# Altium integrated library NSC Audio.IntLib: 691 symbols (part 10 of 18)
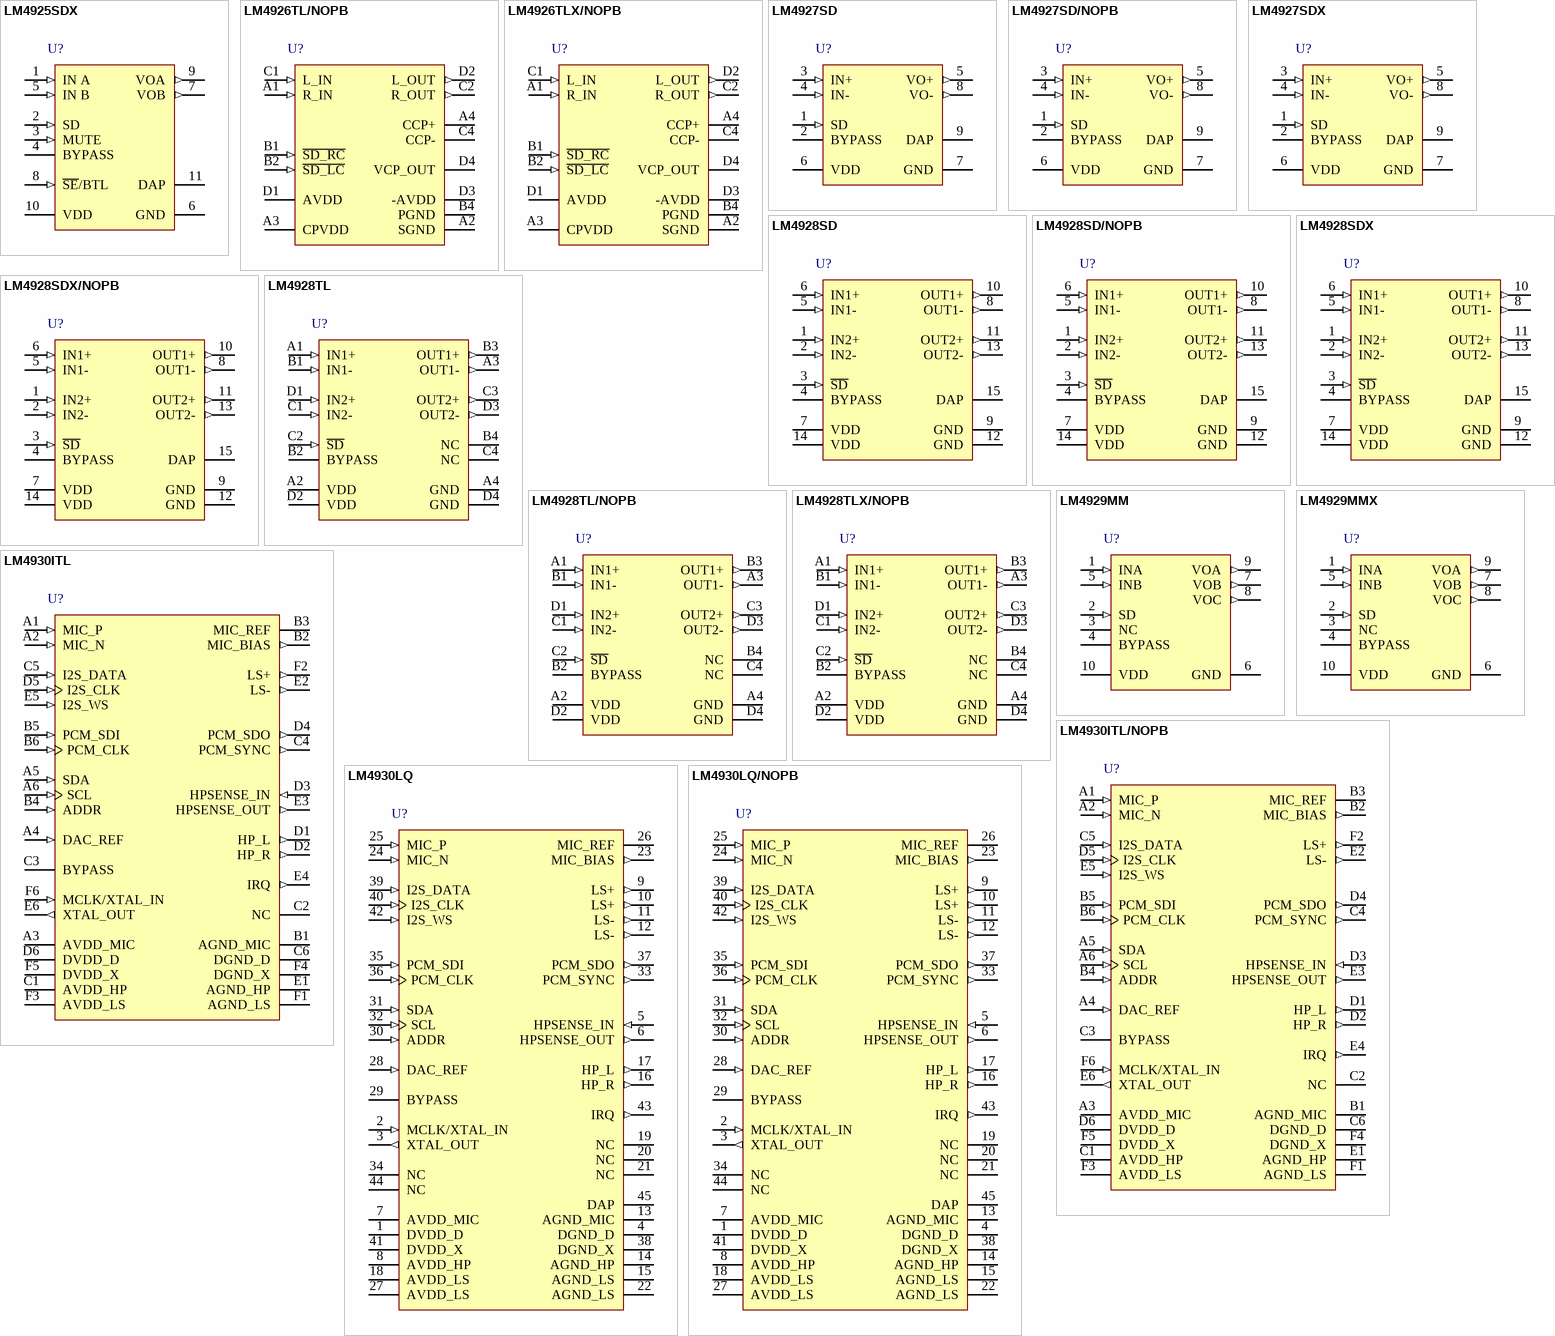
[diagram p36: symbols LM4925SDX to LM4930LQ/NOPB]

## LM4928SD
designator U?
1.2W Stereo Fully Differential Audio Power Amplifier With RF Suppression and Shutdown Low, 15-pin LLP; PartNumber: LM4928SD; Manufacturer: National Semiconductor; PowerWise: N; CompType: Audio IC; Published: 4-Dec-2008; DatasheetVersion: Feb-2006; PackageVersion: revA, Jun-2003; PackageReference: SDA14A; Publisher: Altium Limited; PackageDescription: LLP, Plastic, Dual, 4 x 3 x 0.8mm Body, 14 Lead, 0.5mm Pitch, No Pullback; RoHS: N; PinCount: 14; ComponentLink1Description: LM4928 Datasheet; ComponentLink1URL: http://www.national.com/ds/LM/LM4928.pdf; ComponentLink2Description: LM4928 Web Page; ComponentLink2URL: http://www.national.com/pf/LM/LM4928.html; ComponentLink3Description: SDA14A Package Page; ComponentLink3URL: http://www.national.com/packaging/folders/sda14a.html
footprint SDA14A (SON, 14-Leads, Body 4x3mm, Pitch 0.5mm, NSC Recommended)
pins: 1 IN2+ (in), 2 IN2- (in), 3 ~{SD} (in), 4 BYPASS, 5 IN1- (in), 6 IN1+ (in), 7 VDD (power), 8 OUT1- (out), 9 GND (power), 10 OUT1+ (out), 11 OUT2+ (out), 12 GND (power), 13 OUT2- (out), 14 VDD (power), 15 DAP (power)

## LM4928SD/NOPB
designator U?
1.2W Stereo Fully Differential Audio Power Amplifier With RF Suppression and Shutdown Low, 14-pin LLP, Pb-Free; PartNumber: LM4928SD/NOPB; Manufacturer: National Semiconductor; PowerWise: N; CompType: Audio IC; Published: 1-Mar-2010; DatasheetVersion: Feb-2006; PackageVersion: revA, Jun-2003; PackageReference: SDA14A; Publisher: Altium Limited; PackageDescription: LLP, Plastic, Dual, 4 x 3 x 0.8mm Body, 14 Lead, 0.5mm Pitch, No Pullback; Supplier 1: Digi-Key; Supplier Part Number 1: LM4928SDTR-ND; Supplier 2: Digi-Key; Supplier Part Number 2: LM4928SDCT-ND; Supplier 3: Digi-Key; Supplier Part Number 3: LM4928SDDKR-ND; RoHS: Y; PinCount: 14; ComponentLink1Description: LM4928 Datasheet; ComponentLink1URL: http://www.national.com/ds/LM/LM4928.pdf; ComponentLink2Description: LM4928 Web Page; ComponentLink2URL: http://www.national.com/pf/LM/LM4928.html; ComponentLink3Description: SDA14A Package Page; ComponentLink3URL: http://www.national.com/packaging/folders/sda14a.html
footprint SDA14A (SON, 14-Leads, Body 4x3mm, Pitch 0.5mm, NSC Recommended)
pins: 1 IN2+ (in), 2 IN2- (in), 3 ~{SD} (in), 4 BYPASS, 5 IN1- (in), 6 IN1+ (in), 7 VDD (power), 8 OUT1- (out), 9 GND (power), 10 OUT1+ (out), 11 OUT2+ (out), 12 GND (power), 13 OUT2- (out), 14 VDD (power), 15 DAP (power)

## LM4928SDX
designator U?
1.2W Stereo Fully Differential Audio Power Amplifier With RF Suppression and Shutdown Low, 14-pin LLP; PartNumber: LM4928SDX; Manufacturer: National Semiconductor; PowerWise: N; CompType: Audio IC; Published: 1-Mar-2010; DatasheetVersion: Feb-2006; PackageVersion: revA, Jun-2003; PackageReference: SDA14A; Publisher: Altium Limited; PackageDescription: LLP, Plastic, Dual, 4 x 3 x 0.8mm Body, 14 Lead, 0.5mm Pitch, No Pullback; RoHS: N; PinCount: 14; ComponentLink1Description: LM4928 Datasheet; ComponentLink1URL: http://www.national.com/ds/LM/LM4928.pdf; ComponentLink2Description: LM4928 Web Page; ComponentLink2URL: http://www.national.com/pf/LM/LM4928.html; ComponentLink3Description: SDA14A Package Page; ComponentLink3URL: http://www.national.com/packaging/folders/sda14a.html
footprint SDA14A (SON, 14-Leads, Body 4x3mm, Pitch 0.5mm, NSC Recommended)
pins: 1 IN2+ (in), 2 IN2- (in), 3 ~{SD} (in), 4 BYPASS, 5 IN1- (in), 6 IN1+ (in), 7 VDD (power), 8 OUT1- (out), 9 GND (power), 10 OUT1+ (out), 11 OUT2+ (out), 12 GND (power), 13 OUT2- (out), 14 VDD (power), 15 DAP (power)

## LM4928SDX/NOPB
designator U?
1.2W Stereo Fully Differential Audio Power Amplifier With RF Suppression and Shutdown Low, 14-pin LLP, Pb-Free; PartNumber: LM4928SDX/NOPB; Manufacturer: National Semiconductor; PowerWise: N; CompType: Audio IC; Published: 1-Mar-2010; DatasheetVersion: Feb-2006; PackageVersion: revA, Jun-2003; PackageReference: SDA14A; Publisher: Altium Limited; PackageDescription: LLP, Plastic, Dual, 4 x 3 x 0.8mm Body, 14 Lead, 0.5mm Pitch, No Pullback; Supplier 1: Digi-Key; Supplier Part Number 1: LM4928SDX-ND; RoHS: Y; PinCount: 14; ComponentLink1Description: LM4928 Datasheet; ComponentLink1URL: http://www.national.com/ds/LM/LM4928.pdf; ComponentLink2Description: LM4928 Web Page; ComponentLink2URL: http://www.national.com/pf/LM/LM4928.html; ComponentLink3Description: SDA14A Package Page; ComponentLink3URL: http://www.national.com/packaging/folders/sda14a.html
footprint SDA14A (SON, 14-Leads, Body 4x3mm, Pitch 0.5mm, NSC Recommended)
pins: 1 IN2+ (in), 2 IN2- (in), 3 ~{SD} (in), 4 BYPASS, 5 IN1- (in), 6 IN1+ (in), 7 VDD (power), 8 OUT1- (out), 9 GND (power), 10 OUT1+ (out), 11 OUT2+ (out), 12 GND (power), 13 OUT2- (out), 14 VDD (power), 15 DAP (power)

## LM4928TL
designator U?
1.2W Stereo Fully Differential Audio Power Amplifier With RF Suppression and Shutdown Low, 16-pin Micro SMD; PartNumber: LM4928TL; Manufacturer: National Semiconductor; PackageTopMarking: XYTT*I GF9; PowerWise: N; CompType: Audio IC; Published: 4-Dec-2008; DatasheetVersion: Feb-2006; PackageVersion: revC, Jan-2004; PackageReference: TLA1611A; Publisher: Altium Limited; PackageDescription: Thin Micro SMD, 16 Bump (Large), 0.5mm Pitch; RoHS: Y; PinCount: 16; Code_JEDEC: MO-211-DF; ComponentLink1Description: LM4928 Datasheet; ComponentLink1URL: http://www.national.com/ds/LM/LM4928.pdf; ComponentLink2Description: LM4928 Web Page; ComponentLink2URL: http://www.national.com/pf/LM/LM4928.html; ComponentLink3Description: TLA1611A Package Page; ComponentLink3URL: http://www.national.com/packaging/folders/tla1611a.html
footprint TLA1611A (Micro SMD, 16-Leads, Body 1.97x1.97mm, Pitch 0.5mm, NSC Recommended)
pins: A1 IN1+ (in), A2 VDD (power), A3 OUT1- (out), A4 GND (power), B1 IN1- (in), B2 BYPASS, B3 OUT1+ (out), B4 NC, C1 IN2- (in), C2 ~{SD} (in), C3 OUT2+ (out), C4 NC, D1 IN2+ (in), D2 VDD (power), D3 OUT2- (out), D4 GND (power)

## LM4928TL/NOPB
designator U?
1.2W Stereo Fully Differential Audio Power Amplifier With RF Suppression and Shutdown Low, 16-pin Micro SMD, Pb-Free; PartNumber: LM4928TL/NOPB; Manufacturer: National Semiconductor; PackageTopMarking: XYTT*I GF9; PowerWise: N; CompType: Audio IC; Published: 1-Mar-2010; DatasheetVersion: Feb-2006; PackageVersion: revC, Jan-2004; PackageReference: TLA1611A; Publisher: Altium Limited; PackageDescription: Thin Micro SMD, 16 Bump (Large), 0.5mm Pitch; Supplier 1: Digi-Key; Supplier Part Number 1: LM4928TLTR-ND; Supplier 2: Digi-Key; Supplier Part Number 2: LM4928TLCT-ND; Supplier 3: Digi-Key; Supplier Part Number 3: LM4928TLDKR-ND; RoHS: Y; PinCount: 16; Code_JEDEC: MO-211-DF; ComponentLink1Description: LM4928 Datasheet; ComponentLink1URL: http://www.national.com/ds/LM/LM4928.pdf; ComponentLink2Description: LM4928 Web Page; ComponentLink2URL: http://www.national.com/pf/LM/LM4928.html; ComponentLink3Description: TLA1611A Package Page; ComponentLink3URL: http://www.national.com/packaging/folders/tla1611a.html
footprint TLA1611A (Micro SMD, 16-Leads, Body 1.97x1.97mm, Pitch 0.5mm, NSC Recommended)
pins: A1 IN1+ (in), A2 VDD (power), A3 OUT1- (out), A4 GND (power), B1 IN1- (in), B2 BYPASS, B3 OUT1+ (out), B4 NC, C1 IN2- (in), C2 ~{SD} (in), C3 OUT2+ (out), C4 NC, D1 IN2+ (in), D2 VDD (power), D3 OUT2- (out), D4 GND (power)

## LM4928TLX/NOPB
designator U?
1.2W Stereo Fully Differential Audio Power Amplifier With RF Suppression and Shutdown Low, 16-pin Micro SMD, Pb-Free; PartNumber: LM4928TLX/NOPB; Manufacturer: National Semiconductor; PackageTopMarking: XYTT*I GF9; PowerWise: N; CompType: Audio IC; Published: 1-Mar-2010; DatasheetVersion: Feb-2006; PackageVersion: revC, Jan-2004; PackageReference: TLA1611A; Publisher: Altium Limited; PackageDescription: Thin Micro SMD, 16 Bump (Large), 0.5mm Pitch; Supplier 1: Digi-Key; Supplier Part Number 1: LM4928TLX-ND; RoHS: Y; PinCount: 16; Code_JEDEC: MO-211-DF; ComponentLink1Description: LM4928 Datasheet; ComponentLink1URL: http://www.national.com/ds/LM/LM4928.pdf; ComponentLink2Description: LM4928 Web Page; ComponentLink2URL: http://www.national.com/pf/LM/LM4928.html; ComponentLink3Description: TLA1611A Package Page; ComponentLink3URL: http://www.national.com/packaging/folders/tla1611a.html
footprint TLA1611A (Micro SMD, 16-Leads, Body 1.97x1.97mm, Pitch 0.5mm, NSC Recommended)
pins: A1 IN1+ (in), A2 VDD (power), A3 OUT1- (out), A4 GND (power), B1 IN1- (in), B2 BYPASS, B3 OUT1+ (out), B4 NC, C1 IN2- (in), C2 ~{SD} (in), C3 OUT2+ (out), C4 NC, D1 IN2+ (in), D2 VDD (power), D3 OUT2- (out), D4 GND (power)

## LM4929MM
designator U?
Stereo 40mW Low Noise Headphone Amplifier with OCL Output, 10-pin MSOP; PartNumber: LM4929MM; Manufacturer: National Semiconductor; PackageTopMarking: ZXTT*GB9; PowerWise: N; CompType: Audio IC; Published: 4-Dec-2008; DatasheetVersion: Dec-2004; PackageVersion: revB, Jul-2003; PackageReference: MUB10A; Publisher: Altium Limited; PackageDescription: Mini-SO, Molded, .118 x .118 x .034in Body, 10 Lead, .0197in Pitch; RoHS: N; PinCount: 10; Code_JEDEC: MO-187-BA; ComponentLink1Description: LM4929 Datasheet; ComponentLink1URL: http://www.national.com/ds/LM/LM4929.pdf; ComponentLink2Description: LM4929 Web Page; ComponentLink2URL: http://www.national.com/pf/LM/LM4929.html; ComponentLink3Description: MUB10A Package Page; ComponentLink3URL: http://www.national.com/packaging/folders/mub10a.html
footprint MUB10A_N (TSSOP, 10-Leads, Body 3x3mm, Pitch 0.5mm, IPC Medium Density)
footprint MUB10A_L (TSSOP, 10-Leads, Body 3x3mm, Pitch 0.5mm, IPC High Density)
footprint MUB10A_M (TSSOP, 10-Leads, Body 3x3mm, Pitch 0.5mm, IPC Low Density)
pins: 1 INA (in), 2 SD (in), 3 NC, 4 BYPASS, 5 INB (in), 6 GND (power), 7 VOB (out), 8 VOC (out), 9 VOA (out), 10 VDD (power)

## LM4929MMX
designator U?
Stereo 40mW Low Noise Headphone Amplifier with OCL Output, 10-pin Mini SOIC; PartNumber: LM4929MMX; Manufacturer: National Semiconductor; PackageTopMarking: ZXTT*GB9; PowerWise: N; CompType: Audio IC; Published: 1-Mar-2010; DatasheetVersion: Dec-2004; PackageVersion: revB, Jul-2003; PackageReference: MUB10A; Publisher: Altium Limited; PackageDescription: Mini-SO, Molded, .118 x .118 x .034in Body, 10 Lead, .0197in Pitch; RoHS: N; PinCount: 10; Code_JEDEC: MO-187-BA; ComponentLink1Description: LM4929 Datasheet; ComponentLink1URL: http://www.national.com/ds/LM/LM4929.pdf; ComponentLink2Description: LM4929 Web Page; ComponentLink2URL: http://www.national.com/pf/LM/LM4929.html; ComponentLink3Description: MUB10A Package Page; ComponentLink3URL: http://www.national.com/packaging/folders/mub10a.html
footprint MUB10A_N (TSSOP, 10-Leads, Body 3x3mm, Pitch 0.5mm, IPC Medium Density)
footprint MUB10A_L (TSSOP, 10-Leads, Body 3x3mm, Pitch 0.5mm, IPC High Density)
footprint MUB10A_M (TSSOP, 10-Leads, Body 3x3mm, Pitch 0.5mm, IPC Low Density)
pins: 1 INA (in), 2 SD (in), 3 NC, 4 BYPASS, 5 INB (in), 6 GND (power), 7 VOB (out), 8 VOC (out), 9 VOA (out), 10 VDD (power)

## LM4930ITL
designator U?
Audio Subsystem with Stereo Headphone & Mono Speaker Amplifiers, 36-pin Micro SMD; PartNumber: LM4930ITL; Manufacturer: National Semiconductor; PackageTopMarking: XVG*I B6; PowerWise: N; CompType: Audio IC; Published: 4-Dec-2008; DatasheetVersion: Sep-2004; PackageVersion: revC, Dec-2003; PackageReference: TLA36KRA; Publisher: Altium Limited; PackageDescription: Thin Micro SMD, 36 Bump (Large), 0.5mm Pitch; RoHS: Y; PinCount: 36; Code_JEDEC: MO-211-DK; ComponentLink1Description: LM4930 Datasheet; ComponentLink1URL: http://www.national.com/ds/LM/LM4930.pdf; ComponentLink2Description: LM4930 Web Page; ComponentLink2URL: http://www.national.com/pf/LM/LM4930.html; ComponentLink3Description: TLA36KRA Package Page; ComponentLink3URL: http://www.national.com/packaging/folders/tla36kra.html
footprint TLA36KRA (Micro SMD, 36-Leads, Body 3.41x3.23mm, Pitch 0.5mm, NSC Recommended)
pins: A1 MIC_P (in), A2 MIC_N (in), A3 AVDD_MIC (power), A4 DAC_REF (in), A5 SDA (in), A6 SCL (in), B1 AGND_MIC (power), B2 MIC_BIAS (out), B3 MIC_REF, B4 ADDR (in), B5 PCM_SDI (in), B6 PCM_CLK (in), C1 AVDD_HP (power), C2 NC, C3 BYPASS, C4 PCM_SYNC (out), C5 I2S_DATA (in), C6 DGND_D (power), D1 HP_L (out), D2 HP_R (out), D3 HPSENSE_IN (in), D4 PCM_SDO (out), D5 I2S_CLK (in), D6 DVDD_D (power), E1 AGND_HP (power), E2 LS- (out), E3 HPSENSE_OUT (out), E4 IRQ (out), E5 I2S_WS (in), E6 XTAL_OUT (out), F1 AGND_LS (power), F2 LS+ (out), F3 AVDD_LS (power), F4 DGND_X (power), F5 DVDD_X (power), F6 MCLK/XTAL_IN (in)

## LM4930ITL/NOPB
designator U?
Audio Subsystem with Stereo Headphone & Mono Speaker Amplifiers, 36-pin Micro SMD, Pb-Free; PartNumber: LM4930ITL/NOPB; Manufacturer: National Semiconductor; PackageTopMarking: XVG*I B6; PowerWise: N; CompType: Audio IC; Published: 1-Mar-2010; DatasheetVersion: Sep-2004; PackageVersion: revC, Dec-2003; PackageReference: TLA36KRA; Publisher: Altium Limited; PackageDescription: Thin Micro SMD, 36 Bump (Large), 0.5mm Pitch; Supplier 1: Digi-Key; Supplier Part Number 1: LM4930ITLTR-ND; Supplier 2: Digi-Key; Supplier Part Number 2: LM4930ITLCT-ND; Supplier 3: Digi-Key; Supplier Part Number 3: LM4930ITLDKR-ND; RoHS: Y; PinCount: 36; Code_JEDEC: MO-211-DK; ComponentLink1Description: LM4930 Datasheet; ComponentLink1URL: http://www.national.com/ds/LM/LM4930.pdf; ComponentLink2Description: LM4930 Web Page; ComponentLink2URL: http://www.national.com/pf/LM/LM4930.html; ComponentLink3Description: TLA36KRA Package Page; ComponentLink3URL: http://www.national.com/packaging/folders/tla36kra.html
footprint TLA36KRA (Micro SMD, 36-Leads, Body 3.41x3.23mm, Pitch 0.5mm, NSC Recommended)
pins: A1 MIC_P (in), A2 MIC_N (in), A3 AVDD_MIC (power), A4 DAC_REF (in), A5 SDA (in), A6 SCL (in), B1 AGND_MIC (power), B2 MIC_BIAS (out), B3 MIC_REF, B4 ADDR (in), B5 PCM_SDI (in), B6 PCM_CLK (in), C1 AVDD_HP (power), C2 NC, C3 BYPASS, C4 PCM_SYNC (out), C5 I2S_DATA (in), C6 DGND_D (power), D1 HP_L (out), D2 HP_R (out), D3 HPSENSE_IN (in), D4 PCM_SDO (out), D5 I2S_CLK (in), D6 DVDD_D (power), E1 AGND_HP (power), E2 LS- (out), E3 HPSENSE_OUT (out), E4 IRQ (out), E5 I2S_WS (in), E6 XTAL_OUT (out), F1 AGND_LS (power), F2 LS+ (out), F3 AVDD_LS (power), F4 DGND_X (power), F5 DVDD_X (power), F6 MCLK/XTAL_IN (in)

## LM4930LQ
designator U?
Audio Subsystem with Stereo Headphone & Mono Speaker Amplifiers, 45-pin LLP; PartNumber: LM4930LQ; Manufacturer: National Semiconductor; PackageTopMarking: NS*UZXYTTE#*L4930LQ; PowerWise: N; CompType: Audio IC; Published: 4-Dec-2008; DatasheetVersion: Sep-2004; PackageVersion: revB, Oct-2001; PackageReference: LQA44A; Publisher: Altium Limited; PackageDescription: LLP, Plastic, Quad, 7 x 7 x 0.75mm Body, 44 Lead, 0.5mm Pitch; RoHS: N; PinCount: 44; ComponentLink1Description: LM4930 Datasheet; ComponentLink1URL: http://www.national.com/ds/LM/LM4930.pdf; ComponentLink2Description: LM4930 Web Page; ComponentLink2URL: http://www.national.com/pf/LM/LM4930.html; ComponentLink3Description: LQA44A Package Page; ComponentLink3URL: http://www.national.com/packaging/folders/lqa44a.html
footprint LQA44A (PQFN, 44-Leads, Body 7x7mm, Pitch 0.5mm, NSC Recommended)
pins: 1 DVDD_D (power), 2 MCLK/XTAL_IN (in), 3 XTAL_OUT (out), 4 DGND_D (power), 5 HPSENSE_IN (in), 6 HPSENSE_OUT (out), 7 AVDD_MIC (power), 8 AVDD_HP (power), 9 LS+ (out), 10 LS+ (out), 11 LS- (out), 12 LS- (out), 13 AGND_MIC (power), 14 AGND_HP (power), 15 AGND_LS (power), 16 HP_R (out), 17 HP_L (out), 18 AVDD_LS (power), 19 NC, 20 NC, 21 NC, 22 AGND_LS (power), 23 MIC_BIAS (out), 24 MIC_N (in), 25 MIC_P (in), 26 MIC_REF, 27 AVDD_LS (power), 28 DAC_REF (in), 29 BYPASS, 30 ADDR (in), 31 SDA (in), 32 SCL (in), 33 PCM_SYNC (out), 34 NC, 35 PCM_SDI (in), 36 PCM_CLK (in), 37 PCM_SDO (out), 38 DGND_X (power), 39 I2S_DATA (in), 40 I2S_CLK (in), 41 DVDD_X (power), 42 I2S_WS (in), 43 IRQ (out), 44 NC, 45 DAP (power)

## LM4930LQ/NOPB
designator U?
Audio Subsystem with Stereo Headphone & Mono Speaker Amplifiers, 44-pin LLP, Pb-Free; PartNumber: LM4930LQ/NOPB; Manufacturer: National Semiconductor; PackageTopMarking: NS*UZXYTTE#*L4930LQ; PowerWise: N; CompType: Audio IC; Published: 1-Mar-2010; DatasheetVersion: Sep-2004; PackageVersion: revB, Oct-2001; PackageReference: LQA44A; Publisher: Altium Limited; PackageDescription: LLP, Plastic, Quad, 7 x 7 x 0.75mm Body, 44 Lead, 0.5mm Pitch; Supplier 1: Digi-Key; Supplier Part Number 1: LM4930LQTR-ND; Supplier 2: Digi-Key; Supplier Part Number 2: LM4930LQCT-ND; Supplier 3: Digi-Key; Supplier Part Number 3: LM4930LQDKR-ND; RoHS: Y; PinCount: 44; ComponentLink1Description: LM4930 Datasheet; ComponentLink1URL: http://www.national.com/ds/LM/LM4930.pdf; ComponentLink2Description: LM4930 Web Page; ComponentLink2URL: http://www.national.com/pf/LM/LM4930.html; ComponentLink3Description: LQA44A Package Page; ComponentLink3URL: http://www.national.com/packaging/folders/lqa44a.html
footprint LQA44A (PQFN, 44-Leads, Body 7x7mm, Pitch 0.5mm, NSC Recommended)
pins: 1 DVDD_D (power), 2 MCLK/XTAL_IN (in), 3 XTAL_OUT (out), 4 DGND_D (power), 5 HPSENSE_IN (in), 6 HPSENSE_OUT (out), 7 AVDD_MIC (power), 8 AVDD_HP (power), 9 LS+ (out), 10 LS+ (out), 11 LS- (out), 12 LS- (out), 13 AGND_MIC (power), 14 AGND_HP (power), 15 AGND_LS (power), 16 HP_R (out), 17 HP_L (out), 18 AVDD_LS (power), 19 NC, 20 NC, 21 NC, 22 AGND_LS (power), 23 MIC_BIAS (out), 24 MIC_N (in), 25 MIC_P (in), 26 MIC_REF, 27 AVDD_LS (power), 28 DAC_REF (in), 29 BYPASS, 30 ADDR (in), 31 SDA (in), 32 SCL (in), 33 PCM_SYNC (out), 34 NC, 35 PCM_SDI (in), 36 PCM_CLK (in), 37 PCM_SDO (out), 38 DGND_X (power), 39 I2S_DATA (in), 40 I2S_CLK (in), 41 DVDD_X (power), 42 I2S_WS (in), 43 IRQ (out), 44 NC, 45 DAP (power)

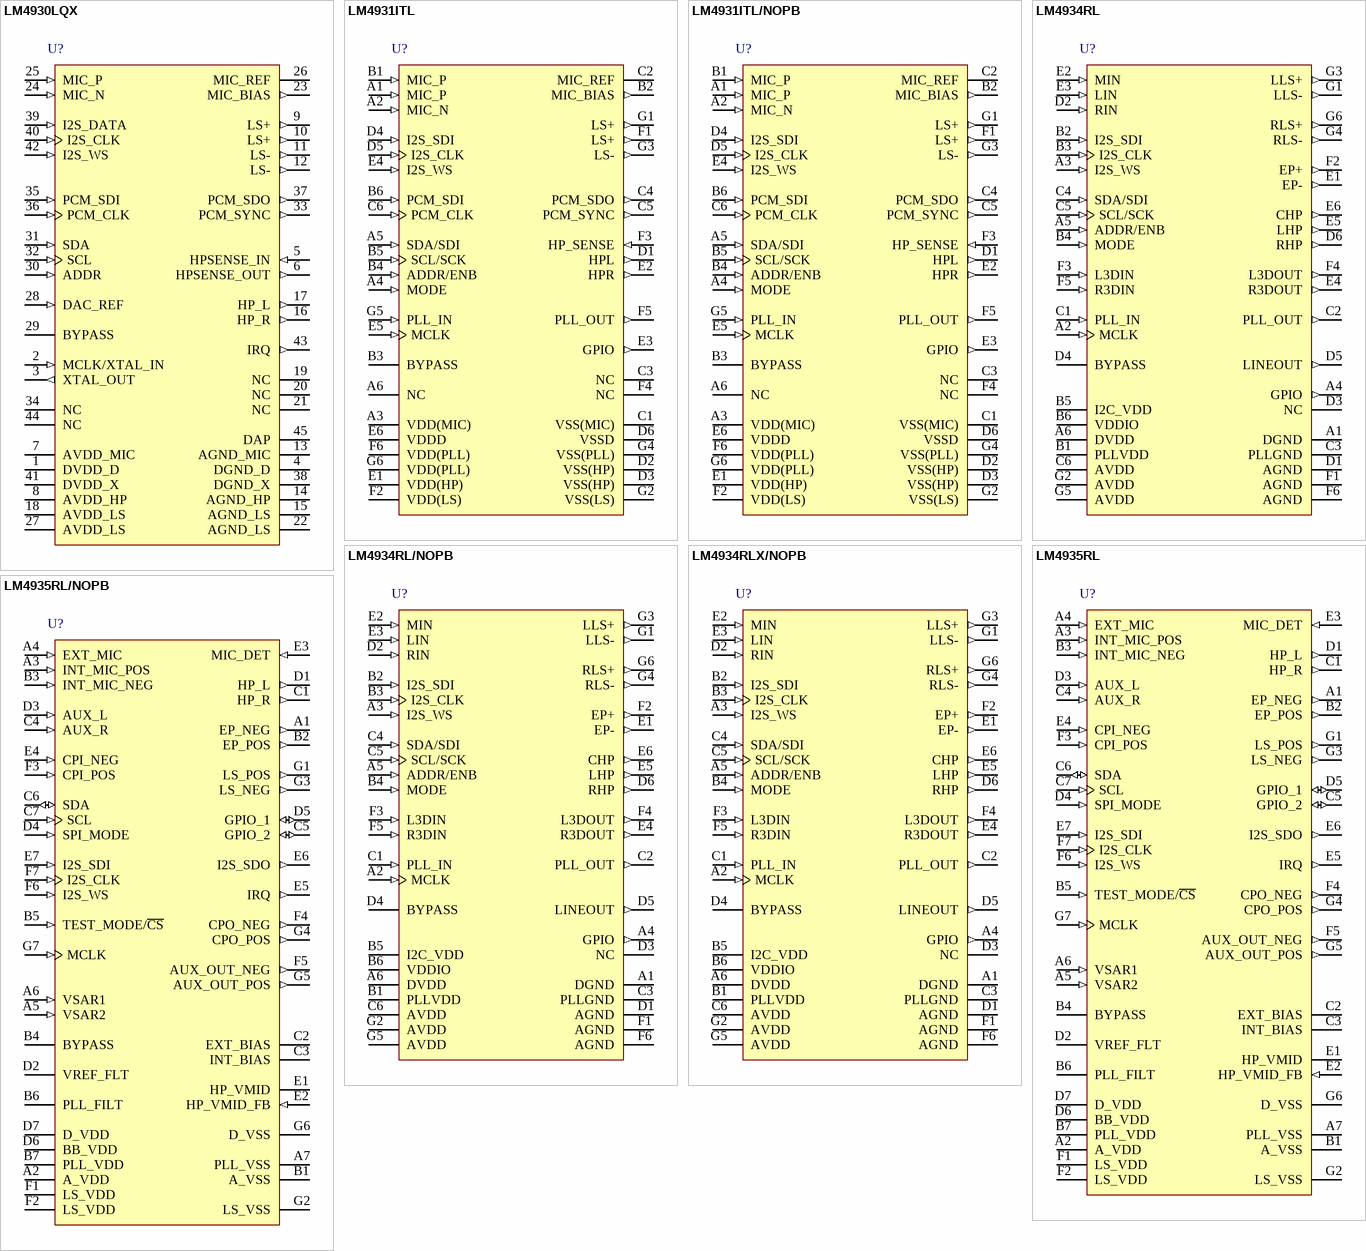
[diagram p13: symbols LM4930LQX to LM4935RL/NOPB]

## LM4930LQX
designator U?
Audio Subsystem with Stereo Headphone & Mono Speaker Amplifiers, 44-pin LLP; PartNumber: LM4930LQX; Manufacturer: National Semiconductor; PackageTopMarking: NS*UZXYTTE#*L4930LQ; PowerWise: N; CompType: Audio IC; Published: 1-Mar-2010; DatasheetVersion: Sep-2004; PackageVersion: revB, Oct-2001; PackageReference: LQA44A; Publisher: Altium Limited; PackageDescription: LLP, Plastic, Quad, 7 x 7 x 0.75mm Body, 44 Lead, 0.5mm Pitch; RoHS: N; PinCount: 44; ComponentLink1Description: LM4930 Datasheet; ComponentLink1URL: http://www.national.com/ds/LM/LM4930.pdf; ComponentLink2Description: LM4930 Web Page; ComponentLink2URL: http://www.national.com/pf/LM/LM4930.html; ComponentLink3Description: LQA44A Package Page; ComponentLink3URL: http://www.national.com/packaging/folders/lqa44a.html
footprint LQA44A (PQFN, 44-Leads, Body 7x7mm, Pitch 0.5mm, NSC Recommended)
pins: 1 DVDD_D (power), 2 MCLK/XTAL_IN (in), 3 XTAL_OUT (out), 4 DGND_D (power), 5 HPSENSE_IN (in), 6 HPSENSE_OUT (out), 7 AVDD_MIC (power), 8 AVDD_HP (power), 9 LS+ (out), 10 LS+ (out), 11 LS- (out), 12 LS- (out), 13 AGND_MIC (power), 14 AGND_HP (power), 15 AGND_LS (power), 16 HP_R (out), 17 HP_L (out), 18 AVDD_LS (power), 19 NC, 20 NC, 21 NC, 22 AGND_LS (power), 23 MIC_BIAS (out), 24 MIC_N (in), 25 MIC_P (in), 26 MIC_REF, 27 AVDD_LS (power), 28 DAC_REF (in), 29 BYPASS, 30 ADDR (in), 31 SDA (in), 32 SCL (in), 33 PCM_SYNC (out), 34 NC, 35 PCM_SDI (in), 36 PCM_CLK (in), 37 PCM_SDO (out), 38 DGND_X (power), 39 I2S_DATA (in), 40 I2S_CLK (in), 41 DVDD_X (power), 42 I2S_WS (in), 43 IRQ (out), 44 NC, 45 DAP (power)

## LM4931ITL
designator U?
Audio Subsystem with Mono High Efficiency Loudspeaker and Stereo Headphone Amplifiers, 42-pin Micro SMD; PartNumber: LM4931ITL; Manufacturer: National Semiconductor; PackageTopMarking: XYTT*I GC9; PowerWise: N; CompType: Audio IC; Published: 4-Dec-2008; DatasheetVersion: Jul-2006; PackageVersion: revC, Feb-2005; PackageReference: TLA42YVA; Publisher: Altium Limited; PackageDescription: Thin Micro SMD, 42 Bump (Large), 0.5mm Pitch; RoHS: Y; PinCount: 42; ComponentLink1Description: LM4931 Datasheet; ComponentLink1URL: http://www.national.com/ds/LM/LM4931.pdf; ComponentLink2Description: LM4931 Web Page; ComponentLink2URL: http://www.national.com/pf/LM/LM4931.html; ComponentLink3Description: TLA42YVA Package Page; ComponentLink3URL: http://www.national.com/packaging/folders/tla42yva.html
footprint TLA42YVA (Micro SMD, 42-Leads, Body 3.93x3.51mm, Pitch 0.5mm, NSC Recommended)
pins: A1 MIC_P (in), A2 MIC_N (in), A3 VDD(MIC) (power), A4 MODE (in), A5 SDA/SDI (in), A6 NC, B1 MIC_P (in), B2 MIC_BIAS (out), B3 BYPASS, B4 ADDR/ENB (in), B5 SCL/SCK (in), B6 PCM_SDI (in), C1 VSS(MIC) (power), C2 MIC_REF, C3 NC, C4 PCM_SDO (out), C5 PCM_SYNC (out), C6 PCM_CLK (in), D1 HPL (out), D2 VSS(HP) (power), D3 VSS(HP) (power), D4 I2S_SDI (in), D5 I2S_CLK (in), D6 VSSD (power), E1 VDD(HP) (power), E2 HPR (out), E3 GPIO (out), E4 I2S_WS (in), E5 MCLK (in), E6 VDDD (power), F1 LS+ (out), F2 VDD(LS) (power), F3 HP_SENSE (in), F4 NC, F5 PLL_OUT (out), F6 VDD(PLL) (power), G1 LS+ (out), G2 VSS(LS) (power), G3 LS- (out), G4 VSS(PLL) (power), G5 PLL_IN (in), G6 VDD(PLL) (power)

## LM4931ITL/NOPB
designator U?
Audio Subsystem with Mono High Efficiency Loudspeaker and Stereo Headphone Amplifiers, 42-pin Micro SMD, Pb-Free; PartNumber: LM4931ITL/NOPB; Manufacturer: National Semiconductor; PackageTopMarking: XYTT*I GC9; PowerWise: N; CompType: Audio IC; Published: 1-Mar-2010; DatasheetVersion: Jul-2006; PackageVersion: revC, Feb-2005; PackageReference: TLA42YVA; Publisher: Altium Limited; PackageDescription: Thin Micro SMD, 42 Bump (Large), 0.5mm Pitch; Supplier 1: Digi-Key; Supplier Part Number 1: LM4931ITLTR-ND; Supplier 2: Digi-Key; Supplier Part Number 2: LM4931ITLCT-ND; Supplier 3: Digi-Key; Supplier Part Number 3: LM4931ITLDKR-ND; RoHS: Y; PinCount: 42; ComponentLink1Description: LM4931 Datasheet; ComponentLink1URL: http://www.national.com/ds/LM/LM4931.pdf; ComponentLink2Description: LM4931 Web Page; ComponentLink2URL: http://www.national.com/pf/LM/LM4931.html; ComponentLink3Description: TLA42YVA Package Page; ComponentLink3URL: http://www.national.com/packaging/folders/tla42yva.html
footprint TLA42YVA (Micro SMD, 42-Leads, Body 3.93x3.51mm, Pitch 0.5mm, NSC Recommended)
pins: A1 MIC_P (in), A2 MIC_N (in), A3 VDD(MIC) (power), A4 MODE (in), A5 SDA/SDI (in), A6 NC, B1 MIC_P (in), B2 MIC_BIAS (out), B3 BYPASS, B4 ADDR/ENB (in), B5 SCL/SCK (in), B6 PCM_SDI (in), C1 VSS(MIC) (power), C2 MIC_REF, C3 NC, C4 PCM_SDO (out), C5 PCM_SYNC (out), C6 PCM_CLK (in), D1 HPL (out), D2 VSS(HP) (power), D3 VSS(HP) (power), D4 I2S_SDI (in), D5 I2S_CLK (in), D6 VSSD (power), E1 VDD(HP) (power), E2 HPR (out), E3 GPIO (out), E4 I2S_WS (in), E5 MCLK (in), E6 VDDD (power), F1 LS+ (out), F2 VDD(LS) (power), F3 HP_SENSE (in), F4 NC, F5 PLL_OUT (out), F6 VDD(PLL) (power), G1 LS+ (out), G2 VSS(LS) (power), G3 LS- (out), G4 VSS(PLL) (power), G5 PLL_IN (in), G6 VDD(PLL) (power)

## LM4934RL
designator U?
3D Audio Sub-System with Stereo Speaker, OCL/SE Stereo Headphone, Earpiece and Mono Line Level Outputs, 42-pin Micro SMDXT; PartNumber: LM4934RL; Manufacturer: National Semiconductor; PackageTopMarking: XYTT*I GG9; PowerWise: N; CompType: Audio IC; Published: 4-Dec-2008; DatasheetVersion: Feb-2006; PackageVersion: revB, Dec-2005; PackageReference: RLA42MPA; Publisher: Altium Limited; PackageDescription: Micro SMDxt, 42 Bump (Large), 0.5mm Pitch; RoHS: Y; PinCount: 42; ComponentLink1Description: LM4934 Datasheet; ComponentLink1URL: http://www.national.com/ds/LM/LM4934.pdf; ComponentLink2Description: LM4934 Web Page; ComponentLink2URL: http://www.national.com/pf/LM/LM4934.html; ComponentLink3Description: RLA42MPA Package Page; ComponentLink3URL: http://www.national.com/packaging/folders/rla42mpa.html
footprint RLA42MPA (Micro SMD, 42-Leads, Body 3.8x3.25mm, Pitch 0.5mm, NSC Recommended)
pins: A1 DGND (power), A2 MCLK (in), A3 I2S_WS (in), A4 GPIO (out), A5 ADDR/ENB (in), A6 DVDD (power), B1 PLLVDD (power), B2 I2S_SDI (in), B3 I2S_CLK (in), B4 MODE (in), B5 I2C_VDD (power), B6 VDDIO (power), C1 PLL_IN (in), C2 PLL_OUT (out), C3 PLLGND (power), C4 SDA/SDI (in), C5 SCL/SCK (in), C6 AVDD (power), D1 AGND (power), D2 RIN (in), D3 NC, D4 BYPASS, D5 LINEOUT (out), D6 RHP (out), E1 EP- (out), E2 MIN (in), E3 LIN (in), E4 R3DOUT (out), E5 LHP (out), E6 CHP (out), F1 AGND (power), F2 EP+ (out), F3 L3DIN (in), F4 L3DOUT (out), F5 R3DIN (in), F6 AGND (power), G1 LLS- (out), G2 AVDD (power), G3 LLS+ (out), G4 RLS- (out), G5 AVDD (power), G6 RLS+ (out)

## LM4934RL/NOPB
designator U?
3D Audio Sub-System with Stereo Speaker, OCL/SE Stereo Headphone, Earpiece and Mono Line Level Outputs, 42-pin Micro SMDXT, Pb-Free; PartNumber: LM4934RL/NOPB; Manufacturer: National Semiconductor; PackageTopMarking: XYTT*I GG9; PowerWise: N; CompType: Audio IC; Published: 1-Mar-2010; DatasheetVersion: Feb-2006; PackageVersion: revB, Dec-2005; PackageReference: RLA42MPA; Publisher: Altium Limited; PackageDescription: Micro SMDxt, 42 Bump (Large), 0.5mm Pitch; Supplier 1: Digi-Key; Supplier Part Number 1: LM4934RLTR-ND; Supplier 2: Digi-Key; Supplier Part Number 2: LM4934RLCT-ND; Supplier 3: Digi-Key; Supplier Part Number 3: LM4934RLDKR-ND; RoHS: Y; PinCount: 42; ComponentLink1Description: LM4934 Datasheet; ComponentLink1URL: http://www.national.com/ds/LM/LM4934.pdf; ComponentLink2Description: LM4934 Web Page; ComponentLink2URL: http://www.national.com/pf/LM/LM4934.html; ComponentLink3Description: RLA42MPA Package Page; ComponentLink3URL: http://www.national.com/packaging/folders/rla42mpa.html
footprint RLA42MPA (Micro SMD, 42-Leads, Body 3.8x3.25mm, Pitch 0.5mm, NSC Recommended)
pins: A1 DGND (power), A2 MCLK (in), A3 I2S_WS (in), A4 GPIO (out), A5 ADDR/ENB (in), A6 DVDD (power), B1 PLLVDD (power), B2 I2S_SDI (in), B3 I2S_CLK (in), B4 MODE (in), B5 I2C_VDD (power), B6 VDDIO (power), C1 PLL_IN (in), C2 PLL_OUT (out), C3 PLLGND (power), C4 SDA/SDI (in), C5 SCL/SCK (in), C6 AVDD (power), D1 AGND (power), D2 RIN (in), D3 NC, D4 BYPASS, D5 LINEOUT (out), D6 RHP (out), E1 EP- (out), E2 MIN (in), E3 LIN (in), E4 R3DOUT (out), E5 LHP (out), E6 CHP (out), F1 AGND (power), F2 EP+ (out), F3 L3DIN (in), F4 L3DOUT (out), F5 R3DIN (in), F6 AGND (power), G1 LLS- (out), G2 AVDD (power), G3 LLS+ (out), G4 RLS- (out), G5 AVDD (power), G6 RLS+ (out)

## LM4934RLX/NOPB
designator U?
3D Audio Sub-System with Stereo Speaker, OCL/SE Stereo Headphone, Earpiece and Mono Line Level Outputs, 42-pin Micro SMDXT, Pb-Free; PartNumber: LM4934RLX/NOPB; Manufacturer: National Semiconductor; PackageTopMarking: XYTT*I GG9; PowerWise: N; CompType: Audio IC; Published: 1-Mar-2010; DatasheetVersion: Feb-2006; PackageVersion: revB, Dec-2005; PackageReference: RLA42MPA; Publisher: Altium Limited; PackageDescription: Micro SMDxt, 42 Bump (Large), 0.5mm Pitch; Supplier 1: Digi-Key; Supplier Part Number 1: LM4934RLX-ND; RoHS: Y; PinCount: 42; ComponentLink1Description: LM4934 Datasheet; ComponentLink1URL: http://www.national.com/ds/LM/LM4934.pdf; ComponentLink2Description: LM4934 Web Page; ComponentLink2URL: http://www.national.com/pf/LM/LM4934.html; ComponentLink3Description: RLA42MPA Package Page; ComponentLink3URL: http://www.national.com/packaging/folders/rla42mpa.html
footprint RLA42MPA (Micro SMD, 42-Leads, Body 3.8x3.25mm, Pitch 0.5mm, NSC Recommended)
pins: A1 DGND (power), A2 MCLK (in), A3 I2S_WS (in), A4 GPIO (out), A5 ADDR/ENB (in), A6 DVDD (power), B1 PLLVDD (power), B2 I2S_SDI (in), B3 I2S_CLK (in), B4 MODE (in), B5 I2C_VDD (power), B6 VDDIO (power), C1 PLL_IN (in), C2 PLL_OUT (out), C3 PLLGND (power), C4 SDA/SDI (in), C5 SCL/SCK (in), C6 AVDD (power), D1 AGND (power), D2 RIN (in), D3 NC, D4 BYPASS, D5 LINEOUT (out), D6 RHP (out), E1 EP- (out), E2 MIN (in), E3 LIN (in), E4 R3DOUT (out), E5 LHP (out), E6 CHP (out), F1 AGND (power), F2 EP+ (out), F3 L3DIN (in), F4 L3DOUT (out), F5 R3DIN (in), F6 AGND (power), G1 LLS- (out), G2 AVDD (power), G3 LLS+ (out), G4 RLS- (out), G5 AVDD (power), G6 RLS+ (out)

## LM4935RL
designator U?
Audio Sub-System with Dual-Mode Stereo Headphone & Mono High Efficiency Loudspeaker Amplifiers and Multi-Purpose ADC, 49-pin Micro SMDXT; PartNumber: LM4935RL; Manufacturer: National Semiconductor; PackageTopMarking: XYTT*I GG7; PowerWise: N; CompType: Audio IC; Published: 4-Dec-2008; DatasheetVersion: Jan-2006; PackageVersion: revB, Dec-2005; PackageReference: RLA49UUA; Publisher: Altium Limited; PackageDescription: Micro SMDxt, 49 Bump (Large), 0.5mm Pitch; RoHS: Y; PinCount: 49; ComponentLink1Description: LM4935 Datasheet; ComponentLink1URL: http://www.national.com/ds/LM/LM4935.pdf; ComponentLink2Description: LM4935 Web Page; ComponentLink2URL: http://www.national.com/pf/LM/LM4935.html; ComponentLink3Description: RLA49UUA Package Page; ComponentLink3URL: http://www.national.com/packaging/folders/rla49uua.html
footprint RLA49UUA (Micro SMD, 49-Leads, Body 3.93x3.93mm, Pitch 0.5mm, NSC Recommended)
pins: A1 EP_NEG (out), A2 A_VDD (power), A3 INT_MIC_POS (in), A4 EXT_MIC (in), A5 VSAR2 (in), A6 VSAR1 (in), A7 PLL_VSS (power), B1 A_VSS (power), B2 EP_POS (out), B3 INT_MIC_NEG (in), B4 BYPASS, B5 TEST_MODE/~{CS} (in), B6 PLL_FILT, B7 PLL_VDD (power), C1 HP_R (out), C2 EXT_BIAS (power), C3 INT_BIAS (power), C4 AUX_R (in), C5 GPIO_2 (io), C6 SDA (io), C7 SCL (in), D1 HP_L (out), D2 VREF_FLT, D3 AUX_L (in), D4 SPI_MODE (in), D5 GPIO_1 (io), D6 BB_VDD (power), D7 D_VDD (power), E1 HP_VMID (power), E2 HP_VMID_FB (in), E3 MIC_DET (in), E4 CPI_NEG (in), E5 IRQ (out), E6 I2S_SDO (out), E7 I2S_SDI (in), F1 LS_VDD (power), F2 LS_VDD (power), F3 CPI_POS (in), F4 CPO_NEG (out), F5 AUX_OUT_NEG (out), F6 I2S_WS (in), F7 I2S_CLK (in), G1 LS_POS (out), G2 LS_VSS (power), G3 LS_NEG (out), G4 CPO_POS (out), G5 AUX_OUT_POS (out), G6 D_VSS (power), G7 MCLK (in)

## LM4935RL/NOPB
designator U?
Audio Sub-System with Dual-Mode Stereo Headphone & Mono High Efficiency Loudspeaker Amplifiers and Multi-Purpose ADC, 49-pin Micro SMDXT, Pb-Free; PartNumber: LM4935RL/NOPB; Manufacturer: National Semiconductor; PackageTopMarking: XYTT*I GG7; PowerWise: N; CompType: Audio IC; Published: 1-Mar-2010; DatasheetVersion: Jan-2006; PackageVersion: revB, Dec-2005; PackageReference: RLA49UUA; Publisher: Altium Limited; PackageDescription: Micro SMDxt, 49 Bump (Large), 0.5mm Pitch; Supplier 1: Digi-Key; Supplier Part Number 1: LM4935RLTR-ND; Supplier 2: Digi-Key; Supplier Part Number 2: LM4935RLCT-ND; Supplier 3: Digi-Key; Supplier Part Number 3: LM4935RLDKR-ND; RoHS: Y; PinCount: 49; ComponentLink1Description: LM4935 Datasheet; ComponentLink1URL: http://www.national.com/ds/LM/LM4935.pdf; ComponentLink2Description: LM4935 Web Page; ComponentLink2URL: http://www.national.com/pf/LM/LM4935.html; ComponentLink3Description: RLA49UUA Package Page; ComponentLink3URL: http://www.national.com/packaging/folders/rla49uua.html
footprint RLA49UUA (Micro SMD, 49-Leads, Body 3.93x3.93mm, Pitch 0.5mm, NSC Recommended)
pins: A1 EP_NEG (out), A2 A_VDD (power), A3 INT_MIC_POS (in), A4 EXT_MIC (in), A5 VSAR2 (in), A6 VSAR1 (in), A7 PLL_VSS (power), B1 A_VSS (power), B2 EP_POS (out), B3 INT_MIC_NEG (in), B4 BYPASS, B5 TEST_MODE/~{CS} (in), B6 PLL_FILT, B7 PLL_VDD (power), C1 HP_R (out), C2 EXT_BIAS (power), C3 INT_BIAS (power), C4 AUX_R (in), C5 GPIO_2 (io), C6 SDA (io), C7 SCL (in), D1 HP_L (out), D2 VREF_FLT, D3 AUX_L (in), D4 SPI_MODE (in), D5 GPIO_1 (io), D6 BB_VDD (power), D7 D_VDD (power), E1 HP_VMID (power), E2 HP_VMID_FB (in), E3 MIC_DET (in), E4 CPI_NEG (in), E5 IRQ (out), E6 I2S_SDO (out), E7 I2S_SDI (in), F1 LS_VDD (power), F2 LS_VDD (power), F3 CPI_POS (in), F4 CPO_NEG (out), F5 AUX_OUT_NEG (out), F6 I2S_WS (in), F7 I2S_CLK (in), G1 LS_POS (out), G2 LS_VSS (power), G3 LS_NEG (out), G4 CPO_POS (out), G5 AUX_OUT_POS (out), G6 D_VSS (power), G7 MCLK (in)

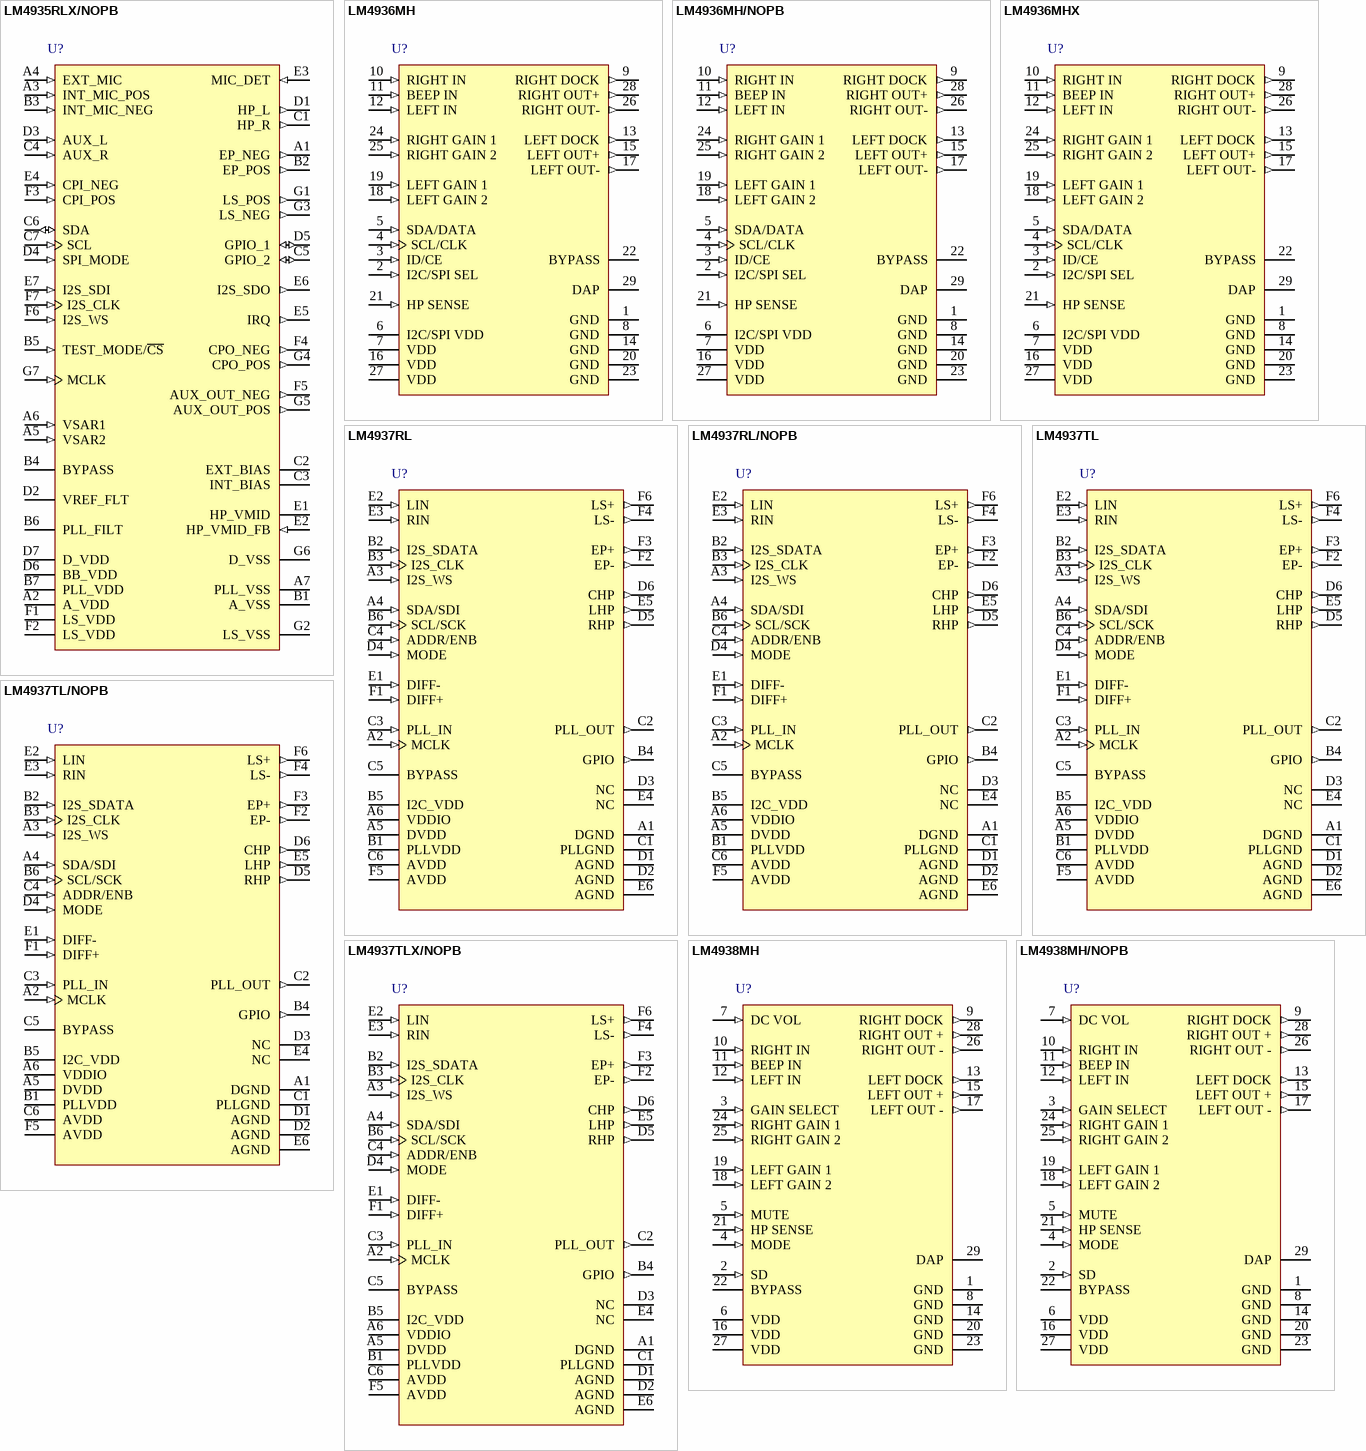
[diagram p14: symbols LM4935RLX/NOPB to LM4938MH/NOPB]

## LM4935RLX/NOPB
designator U?
Audio Sub-System with Dual-Mode Stereo Headphone & Mono High Efficiency Loudspeaker Amplifiers and Multi-Purpose ADC, 49-pin Micro SMDXT, Pb-Free; PartNumber: LM4935RLX/NOPB; Manufacturer: National Semiconductor; PackageTopMarking: XYTT*I GG7; PowerWise: N; CompType: Audio IC; Published: 1-Mar-2010; DatasheetVersion: Jan-2006; PackageVersion: revB, Dec-2005; PackageReference: RLA49UUA; Publisher: Altium Limited; PackageDescription: Micro SMDxt, 49 Bump (Large), 0.5mm Pitch; Supplier 1: Digi-Key; Supplier Part Number 1: LM4935RLX-ND; RoHS: Y; PinCount: 49; ComponentLink1Description: LM4935 Datasheet; ComponentLink1URL: http://www.national.com/ds/LM/LM4935.pdf; ComponentLink2Description: LM4935 Web Page; ComponentLink2URL: http://www.national.com/pf/LM/LM4935.html; ComponentLink3Description: RLA49UUA Package Page; ComponentLink3URL: http://www.national.com/packaging/folders/rla49uua.html
footprint RLA49UUA (Micro SMD, 49-Leads, Body 3.93x3.93mm, Pitch 0.5mm, NSC Recommended)
pins: A1 EP_NEG (out), A2 A_VDD (power), A3 INT_MIC_POS (in), A4 EXT_MIC (in), A5 VSAR2 (in), A6 VSAR1 (in), A7 PLL_VSS (power), B1 A_VSS (power), B2 EP_POS (out), B3 INT_MIC_NEG (in), B4 BYPASS, B5 TEST_MODE/~{CS} (in), B6 PLL_FILT, B7 PLL_VDD (power), C1 HP_R (out), C2 EXT_BIAS (power), C3 INT_BIAS (power), C4 AUX_R (in), C5 GPIO_2 (io), C6 SDA (io), C7 SCL (in), D1 HP_L (out), D2 VREF_FLT, D3 AUX_L (in), D4 SPI_MODE (in), D5 GPIO_1 (io), D6 BB_VDD (power), D7 D_VDD (power), E1 HP_VMID (power), E2 HP_VMID_FB (in), E3 MIC_DET (in), E4 CPI_NEG (in), E5 IRQ (out), E6 I2S_SDO (out), E7 I2S_SDI (in), F1 LS_VDD (power), F2 LS_VDD (power), F3 CPI_POS (in), F4 CPO_NEG (out), F5 AUX_OUT_NEG (out), F6 I2S_WS (in), F7 I2S_CLK (in), G1 LS_POS (out), G2 LS_VSS (power), G3 LS_NEG (out), G4 CPO_POS (out), G5 AUX_OUT_POS (out), G6 D_VSS (power), G7 MCLK (in)

## LM4936MH
designator U?
Stereo 2W Audio Power Amplifiers with Volume Control and Selectable Control Interface (SPI or I2C), 29-pin TSSOP-EP; PartNumber: LM4936MH; Manufacturer: National Semiconductor; PackageTopMarking: NSUZXYTTE#*LM4936MH; PowerWise: N; CompType: Audio IC; Published: 4-Dec-2008; DatasheetVersion: Apr-2005; PackageVersion: revD, Oct-2003; PackageReference: MXA28A; Publisher: Altium Limited; PackageDescription: Molded TSSOP, Jedec, 9.7 x 4.4 x 0.9mm Body, 28 Lead, 0.65mm Pitch, Exposed Pad; RoHS: N; PinCount: 28; Code_JEDEC: MO-153-AET; ComponentLink1Description: LM4936 Datasheet; ComponentLink1URL: http://www.national.com/ds/LM/LM4936.pdf; ComponentLink2Description: LM4936 Web Page; ComponentLink2URL: http://www.national.com/pf/LM/LM4936.html; ComponentLink3Description: MXA28A Package Page; ComponentLink3URL: http://www.national.com/packaging/folders/mxa28a.html
footprint MXA28A_N (TSOP, 28-Leads, Body 9.7x4.4mm, Pitch 0.65mm, Exposed Pad, IPC Medium Density)
footprint MXA28A_L (TSOP, 28-Leads, Body 9.7x4.4mm, Pitch 0.65mm, Exposed Pad, IPC High Density)
footprint MXA28A_M (TSOP, 28-Leads, Body 9.7x4.4mm, Pitch 0.65mm, Exposed Pad, IPC Low Density)
pins: 1 GND (power), 2 I2C/SPI SEL (in), 3 ID/CE (in), 4 SCL/CLK (in), 5 SDA/DATA (in), 6 I2C/SPI VDD (power), 7 VDD (power), 8 GND (power), 9 RIGHT DOCK (out), 10 RIGHT IN (in), 11 BEEP IN (in), 12 LEFT IN (in), 13 LEFT DOCK (out), 14 GND (power), 15 LEFT OUT+ (out), 16 VDD (power), 17 LEFT OUT- (out), 18 LEFT GAIN 2 (in), 19 LEFT GAIN 1 (in), 20 GND (power), 21 HP SENSE (in), 22 BYPASS, 23 GND (power), 24 RIGHT GAIN 1 (in), 25 RIGHT GAIN 2 (in), 26 RIGHT OUT- (out), 27 VDD (power), 28 RIGHT OUT+ (out), 29 DAP (power)

## LM4936MH/NOPB
designator U?
Stereo 2W Audio Power Amplifiers with Volume Control and Selectable Control Interface (SPI or I2C), 28-pin TSSOP-EP, Pb-Free; PartNumber: LM4936MH/NOPB; Manufacturer: National Semiconductor; PackageTopMarking: NSUZXYTTE#*LM4936MH; PowerWise: N; CompType: Audio IC; Published: 1-Mar-2010; DatasheetVersion: Apr-2005; PackageVersion: revD, Oct-2003; PackageReference: MXA28A; Publisher: Altium Limited; PackageDescription: Molded TSSOP, Jedec, 9.7 x 4.4 x 0.9mm Body, 28 Lead, 0.65mm Pitch, Exposed Pad; Supplier 1: Digi-Key; Supplier Part Number 1: LM4936MH-ND; RoHS: Y; PinCount: 28; Code_JEDEC: MO-153-AET; ComponentLink1Description: LM4936 Datasheet; ComponentLink1URL: http://www.national.com/ds/LM/LM4936.pdf; ComponentLink2Description: LM4936 Web Page; ComponentLink2URL: http://www.national.com/pf/LM/LM4936.html; ComponentLink3Description: MXA28A Package Page; ComponentLink3URL: http://www.national.com/packaging/folders/mxa28a.html
footprint MXA28A_N (TSOP, 28-Leads, Body 9.7x4.4mm, Pitch 0.65mm, Exposed Pad, IPC Medium Density)
footprint MXA28A_L (TSOP, 28-Leads, Body 9.7x4.4mm, Pitch 0.65mm, Exposed Pad, IPC High Density)
footprint MXA28A_M (TSOP, 28-Leads, Body 9.7x4.4mm, Pitch 0.65mm, Exposed Pad, IPC Low Density)
pins: 1 GND (power), 2 I2C/SPI SEL (in), 3 ID/CE (in), 4 SCL/CLK (in), 5 SDA/DATA (in), 6 I2C/SPI VDD (power), 7 VDD (power), 8 GND (power), 9 RIGHT DOCK (out), 10 RIGHT IN (in), 11 BEEP IN (in), 12 LEFT IN (in), 13 LEFT DOCK (out), 14 GND (power), 15 LEFT OUT+ (out), 16 VDD (power), 17 LEFT OUT- (out), 18 LEFT GAIN 2 (in), 19 LEFT GAIN 1 (in), 20 GND (power), 21 HP SENSE (in), 22 BYPASS, 23 GND (power), 24 RIGHT GAIN 1 (in), 25 RIGHT GAIN 2 (in), 26 RIGHT OUT- (out), 27 VDD (power), 28 RIGHT OUT+ (out), 29 DAP (power)

## LM4936MHX
designator U?
Stereo 2W Audio Power Amplifiers with Volume Control and Selectable Control Interface (SPI or I2C), 28-pin TSSOP-EP; PartNumber: LM4936MHX; Manufacturer: National Semiconductor; PackageTopMarking: NSUZXYTTE#*LM4936MH; PowerWise: N; CompType: Audio IC; Published: 1-Mar-2010; DatasheetVersion: Apr-2005; PackageVersion: revD, Oct-2003; PackageReference: MXA28A; Publisher: Altium Limited; PackageDescription: Molded TSSOP, Jedec, 9.7 x 4.4 x 0.9mm Body, 28 Lead, 0.65mm Pitch, Exposed Pad; RoHS: N; PinCount: 28; Code_JEDEC: MO-153-AET; ComponentLink1Description: LM4936 Datasheet; ComponentLink1URL: http://www.national.com/ds/LM/LM4936.pdf; ComponentLink2Description: LM4936 Web Page; ComponentLink2URL: http://www.national.com/pf/LM/LM4936.html; ComponentLink3Description: MXA28A Package Page; ComponentLink3URL: http://www.national.com/packaging/folders/mxa28a.html
footprint MXA28A_N (TSOP, 28-Leads, Body 9.7x4.4mm, Pitch 0.65mm, Exposed Pad, IPC Medium Density)
footprint MXA28A_L (TSOP, 28-Leads, Body 9.7x4.4mm, Pitch 0.65mm, Exposed Pad, IPC High Density)
footprint MXA28A_M (TSOP, 28-Leads, Body 9.7x4.4mm, Pitch 0.65mm, Exposed Pad, IPC Low Density)
pins: 1 GND (power), 2 I2C/SPI SEL (in), 3 ID/CE (in), 4 SCL/CLK (in), 5 SDA/DATA (in), 6 I2C/SPI VDD (power), 7 VDD (power), 8 GND (power), 9 RIGHT DOCK (out), 10 RIGHT IN (in), 11 BEEP IN (in), 12 LEFT IN (in), 13 LEFT DOCK (out), 14 GND (power), 15 LEFT OUT+ (out), 16 VDD (power), 17 LEFT OUT- (out), 18 LEFT GAIN 2 (in), 19 LEFT GAIN 1 (in), 20 GND (power), 21 HP SENSE (in), 22 BYPASS, 23 GND (power), 24 RIGHT GAIN 1 (in), 25 RIGHT GAIN 2 (in), 26 RIGHT OUT- (out), 27 VDD (power), 28 RIGHT OUT+ (out), 29 DAP (power)

## LM4937RL
designator U?
Audio Sub-System with OCL Stereo Headphone Output and RF Suppression, 36-pin Micro SMDXT; PartNumber: LM4937RL; Manufacturer: National Semiconductor; PackageTopMarking: XYTT*I GJ3; PowerWise: N; CompType: Audio IC; Published: 4-Dec-2008; DatasheetVersion: Nov-2007; PackageVersion: revA, 2007; PackageReference: RLA36LVA; Publisher: Altium Limited; PackageDescription: Micro SMDxt, 36 Bump (Large), 0.5mm Pitch; RoHS: Y; PinCount: 36; ComponentLink1Description: LM4937 Datasheet; ComponentLink1URL: http://www.national.com/ds/LM/LM4937.pdf; ComponentLink2Description: LM4937 Web Page; ComponentLink2URL: http://www.national.com/pf/LM/LM4937.html
footprint RLA36LVA (Micro SMD, 36-Leads, Body 3.51x3.26mm, Pitch 0.5mm, NSC Recommended)
pins: A1 DGND (power), A2 MCLK (in), A3 I2S_WS (in), A4 SDA/SDI (in), A5 DVDD (power), A6 VDDIO (power), B1 PLLVDD (power), B2 I2S_SDATA (in), B3 I2S_CLK (in), B4 GPIO (out), B5 I2C_VDD (power), B6 SCL/SCK (in), C1 PLLGND (power), C2 PLL_OUT (out), C3 PLL_IN (in), C4 ADDR/ENB (in), C5 BYPASS, C6 AVDD (power), D1 AGND (power), D2 AGND (power), D3 NC, D4 MODE (in), D5 RHP (out), D6 CHP (out), E1 DIFF- (in), E2 LIN (in), E3 RIN (in), E4 NC, E5 LHP (out), E6 AGND (power), F1 DIFF+ (in), F2 EP- (out), F3 EP+ (out), F4 LS- (out), F5 AVDD (power), F6 LS+ (out)

## LM4937RL/NOPB
designator U?
Audio Sub-System with OCL Stereo Headphone Output and RF Suppression, 36-pin Micro SMDXT, Pb-Free; PartNumber: LM4937RL/NOPB; Manufacturer: National Semiconductor; PackageTopMarking: XYTT*I GJ3; PowerWise: N; CompType: Audio IC; Published: 1-Mar-2010; DatasheetVersion: Nov-2007; PackageVersion: revA, 2007; PackageReference: RLA36LVA; Publisher: Altium Limited; PackageDescription: Micro SMDxt, 36 Bump (Large), 0.5mm Pitch; Supplier 1: Digi-Key; Supplier Part Number 1: LM4937RLTR-ND; Supplier 2: Digi-Key; Supplier Part Number 2: LM4937RLCT-ND; Supplier 3: Digi-Key; Supplier Part Number 3: LM4937RLDKR-ND; RoHS: Y; PinCount: 36; ComponentLink1Description: LM4937 Datasheet; ComponentLink1URL: http://www.national.com/ds/LM/LM4937.pdf; ComponentLink2Description: LM4937 Web Page; ComponentLink2URL: http://www.national.com/pf/LM/LM4937.html; ComponentLink3Description: RLA36LVA Package Page; ComponentLink3URL: http://www.national.com/packaging/folders/rla36lva.html
footprint RLA36LVA (Micro SMD, 36-Leads, Body 3.51x3.26mm, Pitch 0.5mm, NSC Recommended)
pins: A1 DGND (power), A2 MCLK (in), A3 I2S_WS (in), A4 SDA/SDI (in), A5 DVDD (power), A6 VDDIO (power), B1 PLLVDD (power), B2 I2S_SDATA (in), B3 I2S_CLK (in), B4 GPIO (out), B5 I2C_VDD (power), B6 SCL/SCK (in), C1 PLLGND (power), C2 PLL_OUT (out), C3 PLL_IN (in), C4 ADDR/ENB (in), C5 BYPASS, C6 AVDD (power), D1 AGND (power), D2 AGND (power), D3 NC, D4 MODE (in), D5 RHP (out), D6 CHP (out), E1 DIFF- (in), E2 LIN (in), E3 RIN (in), E4 NC, E5 LHP (out), E6 AGND (power), F1 DIFF+ (in), F2 EP- (out), F3 EP+ (out), F4 LS- (out), F5 AVDD (power), F6 LS+ (out)

## LM4937TL
designator U?
Audio Sub-System with OCL Stereo Headphone Output and RF Suppression, 36-pin Micro SMD; PartNumber: LM4937TL; Manufacturer: National Semiconductor; PackageTopMarking: XYTT*I GI1; PowerWise: N; CompType: Audio IC; Published: 4-Dec-2008; DatasheetVersion: Nov-2007; PackageVersion: revC, Dec-2003; PackageReference: TLA36LVA; Publisher: Altium Limited; PackageDescription: Thin Micro SMD, 36 Bump (Large), 0.5mm Pitch; RoHS: Y; PinCount: 36; Code_JEDEC: MO-211-DK; ComponentLink1Description: LM4937 Datasheet; ComponentLink1URL: http://www.national.com/ds/LM/LM4937.pdf; ComponentLink2Description: LM4937 Web Page; ComponentLink2URL: http://www.national.com/pf/LM/LM4937.html; ComponentLink3Description: TLA36LVA Package Page; ComponentLink3URL: http://www.national.com/packaging/folders/tla36lva.html
footprint TLA36LVA (Micro SMD, 36-Leads, Body 3.51x3.26mm, Pitch 0.5mm, NSC Recommended)
pins: A1 DGND (power), A2 MCLK (in), A3 I2S_WS (in), A4 SDA/SDI (in), A5 DVDD (power), A6 VDDIO (power), B1 PLLVDD (power), B2 I2S_SDATA (in), B3 I2S_CLK (in), B4 GPIO (out), B5 I2C_VDD (power), B6 SCL/SCK (in), C1 PLLGND (power), C2 PLL_OUT (out), C3 PLL_IN (in), C4 ADDR/ENB (in), C5 BYPASS, C6 AVDD (power), D1 AGND (power), D2 AGND (power), D3 NC, D4 MODE (in), D5 RHP (out), D6 CHP (out), E1 DIFF- (in), E2 LIN (in), E3 RIN (in), E4 NC, E5 LHP (out), E6 AGND (power), F1 DIFF+ (in), F2 EP- (out), F3 EP+ (out), F4 LS- (out), F5 AVDD (power), F6 LS+ (out)

## LM4937TL/NOPB
designator U?
Audio Sub-System with OCL Stereo Headphone Output and RF Suppression, 36-pin Micro SMD, Pb-Free; PartNumber: LM4937TL/NOPB; Manufacturer: National Semiconductor; PackageTopMarking: XYTT*I GI1; PowerWise: N; CompType: Audio IC; Published: 1-Mar-2010; DatasheetVersion: Nov-2007; PackageVersion: revC, Dec-2003; PackageReference: TLA36LVA; Publisher: Altium Limited; PackageDescription: Thin Micro SMD, 36 Bump (Large), 0.5mm Pitch; Supplier 1: Digi-Key; Supplier Part Number 1: LM4937TLTR-ND; Supplier 2: Digi-Key; Supplier Part Number 2: LM4937TLCT-ND; Supplier 3: Digi-Key; Supplier Part Number 3: LM4937TLDKR-ND; RoHS: Y; PinCount: 36; Code_JEDEC: MO-211-DK; ComponentLink1Description: LM4937 Datasheet; ComponentLink1URL: http://www.national.com/ds/LM/LM4937.pdf; ComponentLink2Description: LM4937 Web Page; ComponentLink2URL: http://www.national.com/pf/LM/LM4937.html; ComponentLink3Description: TLA36LVA Package Page; ComponentLink3URL: http://www.national.com/packaging/folders/tla36lva.html
footprint TLA36LVA (Micro SMD, 36-Leads, Body 3.51x3.26mm, Pitch 0.5mm, NSC Recommended)
pins: A1 DGND (power), A2 MCLK (in), A3 I2S_WS (in), A4 SDA/SDI (in), A5 DVDD (power), A6 VDDIO (power), B1 PLLVDD (power), B2 I2S_SDATA (in), B3 I2S_CLK (in), B4 GPIO (out), B5 I2C_VDD (power), B6 SCL/SCK (in), C1 PLLGND (power), C2 PLL_OUT (out), C3 PLL_IN (in), C4 ADDR/ENB (in), C5 BYPASS, C6 AVDD (power), D1 AGND (power), D2 AGND (power), D3 NC, D4 MODE (in), D5 RHP (out), D6 CHP (out), E1 DIFF- (in), E2 LIN (in), E3 RIN (in), E4 NC, E5 LHP (out), E6 AGND (power), F1 DIFF+ (in), F2 EP- (out), F3 EP+ (out), F4 LS- (out), F5 AVDD (power), F6 LS+ (out)

## LM4937TLX/NOPB
designator U?
Audio Sub-System with OCL Stereo Headphone Output and RF Suppression, 36-pin Micro SMD, Pb-Free; PartNumber: LM4937TLX/NOPB; Manufacturer: National Semiconductor; PackageTopMarking: XYTT*I GI1; PowerWise: N; CompType: Audio IC; Published: 1-Mar-2010; DatasheetVersion: Nov-2007; PackageVersion: revC, Dec-2003; PackageReference: TLA36LVA; Publisher: Altium Limited; PackageDescription: Thin Micro SMD, 36 Bump (Large), 0.5mm Pitch; Supplier 1: Digi-Key; Supplier Part Number 1: LM4937TLX-ND; RoHS: Y; PinCount: 36; Code_JEDEC: MO-211-DK; ComponentLink1Description: LM4937 Datasheet; ComponentLink1URL: http://www.national.com/ds/LM/LM4937.pdf; ComponentLink2Description: LM4937 Web Page; ComponentLink2URL: http://www.national.com/pf/LM/LM4937.html; ComponentLink3Description: TLA36LVA Package Page; ComponentLink3URL: http://www.national.com/packaging/folders/tla36lva.html
footprint TLA36LVA (Micro SMD, 36-Leads, Body 3.51x3.26mm, Pitch 0.5mm, NSC Recommended)
pins: A1 DGND (power), A2 MCLK (in), A3 I2S_WS (in), A4 SDA/SDI (in), A5 DVDD (power), A6 VDDIO (power), B1 PLLVDD (power), B2 I2S_SDATA (in), B3 I2S_CLK (in), B4 GPIO (out), B5 I2C_VDD (power), B6 SCL/SCK (in), C1 PLLGND (power), C2 PLL_OUT (out), C3 PLL_IN (in), C4 ADDR/ENB (in), C5 BYPASS, C6 AVDD (power), D1 AGND (power), D2 AGND (power), D3 NC, D4 MODE (in), D5 RHP (out), D6 CHP (out), E1 DIFF- (in), E2 LIN (in), E3 RIN (in), E4 NC, E5 LHP (out), E6 AGND (power), F1 DIFF+ (in), F2 EP- (out), F3 EP+ (out), F4 LS- (out), F5 AVDD (power), F6 LS+ (out)

## LM4938MH
designator U?
Stereo 2W Audio Power Amplifiers with DC Volume Control and Selectable Gain, 29-pin TSSOP-EP; PartNumber: LM4938MH; Manufacturer: National Semiconductor; PackageTopMarking: NSUZXYTTE#*LM4938MH; PowerWise: N; CompType: Audio IC; Published: 4-Dec-2008; DatasheetVersion: Jul-2005; PackageVersion: revD, Oct-2003; PackageReference: MXA28A; Publisher: Altium Limited; PackageDescription: Molded TSSOP, Jedec, 9.7 x 4.4 x 0.9mm Body, 28 Lead, 0.65mm Pitch, Exposed Pad; Supplier 1: Farnell; Supplier Part Number 1: 1008027; RoHS: N; PinCount: 28; Code_JEDEC: MO-153-AET; ComponentLink1Description: LM4938 Datasheet; ComponentLink1URL: http://www.national.com/ds/LM/LM4938.pdf; ComponentLink2Description: LM4938 Web Page; ComponentLink2URL: http://www.national.com/pf/LM/LM4938.html; ComponentLink3Description: MXA28A Package Page; ComponentLink3URL: http://www.national.com/packaging/folders/mxa28a.html
footprint MXA28A_N (TSOP, 28-Leads, Body 9.7x4.4mm, Pitch 0.65mm, Exposed Pad, IPC Medium Density)
footprint MXA28A_L (TSOP, 28-Leads, Body 9.7x4.4mm, Pitch 0.65mm, Exposed Pad, IPC High Density)
footprint MXA28A_M (TSOP, 28-Leads, Body 9.7x4.4mm, Pitch 0.65mm, Exposed Pad, IPC Low Density)
pins: 1 GND (power), 2 SD (in), 3 GAIN SELECT (in), 4 MODE (in), 5 MUTE (in), 6 VDD (power), 7 DC VOL (in), 8 GND (power), 9 RIGHT DOCK (out), 10 RIGHT IN (in), 11 BEEP IN (in), 12 LEFT IN (in), 13 LEFT DOCK (out), 14 GND (power), 15 LEFT OUT + (out), 16 VDD (power), 17 LEFT OUT - (out), 18 LEFT GAIN 2 (in), 19 LEFT GAIN 1 (in), 20 GND (power), 21 HP SENSE (in), 22 BYPASS, 23 GND (power), 24 RIGHT GAIN 1 (in), 25 RIGHT GAIN 2 (in), 26 RIGHT OUT - (out), 27 VDD (power), 28 RIGHT OUT + (out), 29 DAP (power)

## LM4938MH/NOPB
designator U?
Stereo 2W Audio Power Amplifiers with DC Volume Control and Selectable Gain, 28-pin TSSOP-EP, Pb-Free; PartNumber: LM4938MH/NOPB; Manufacturer: National Semiconductor; PackageTopMarking: NSUZXYTTE#*LM4938MH; PowerWise: N; CompType: Audio IC; Published: 1-Mar-2010; DatasheetVersion: Jul-2005; PackageVersion: revD, Oct-2003; PackageReference: MXA28A; Publisher: Altium Limited; PackageDescription: Molded TSSOP, Jedec, 9.7 x 4.4 x 0.9mm Body, 28 Lead, 0.65mm Pitch, Exposed Pad; Supplier 1: Digi-Key; Supplier Part Number 1: LM4938MH-ND; RoHS: Y; PinCount: 28; Code_JEDEC: MO-153-AET; ComponentLink1Description: LM4938 Datasheet; ComponentLink1URL: http://www.national.com/ds/LM/LM4938.pdf; ComponentLink2Description: LM4938 Web Page; ComponentLink2URL: http://www.national.com/pf/LM/LM4938.html; ComponentLink3Description: MXA28A Package Page; ComponentLink3URL: http://www.national.com/packaging/folders/mxa28a.html
footprint MXA28A_N (TSOP, 28-Leads, Body 9.7x4.4mm, Pitch 0.65mm, Exposed Pad, IPC Medium Density)
footprint MXA28A_L (TSOP, 28-Leads, Body 9.7x4.4mm, Pitch 0.65mm, Exposed Pad, IPC High Density)
footprint MXA28A_M (TSOP, 28-Leads, Body 9.7x4.4mm, Pitch 0.65mm, Exposed Pad, IPC Low Density)
pins: 1 GND (power), 2 SD (in), 3 GAIN SELECT (in), 4 MODE (in), 5 MUTE (in), 6 VDD (power), 7 DC VOL (in), 8 GND (power), 9 RIGHT DOCK (out), 10 RIGHT IN (in), 11 BEEP IN (in), 12 LEFT IN (in), 13 LEFT DOCK (out), 14 GND (power), 15 LEFT OUT + (out), 16 VDD (power), 17 LEFT OUT - (out), 18 LEFT GAIN 2 (in), 19 LEFT GAIN 1 (in), 20 GND (power), 21 HP SENSE (in), 22 BYPASS, 23 GND (power), 24 RIGHT GAIN 1 (in), 25 RIGHT GAIN 2 (in), 26 RIGHT OUT - (out), 27 VDD (power), 28 RIGHT OUT + (out), 29 DAP (power)

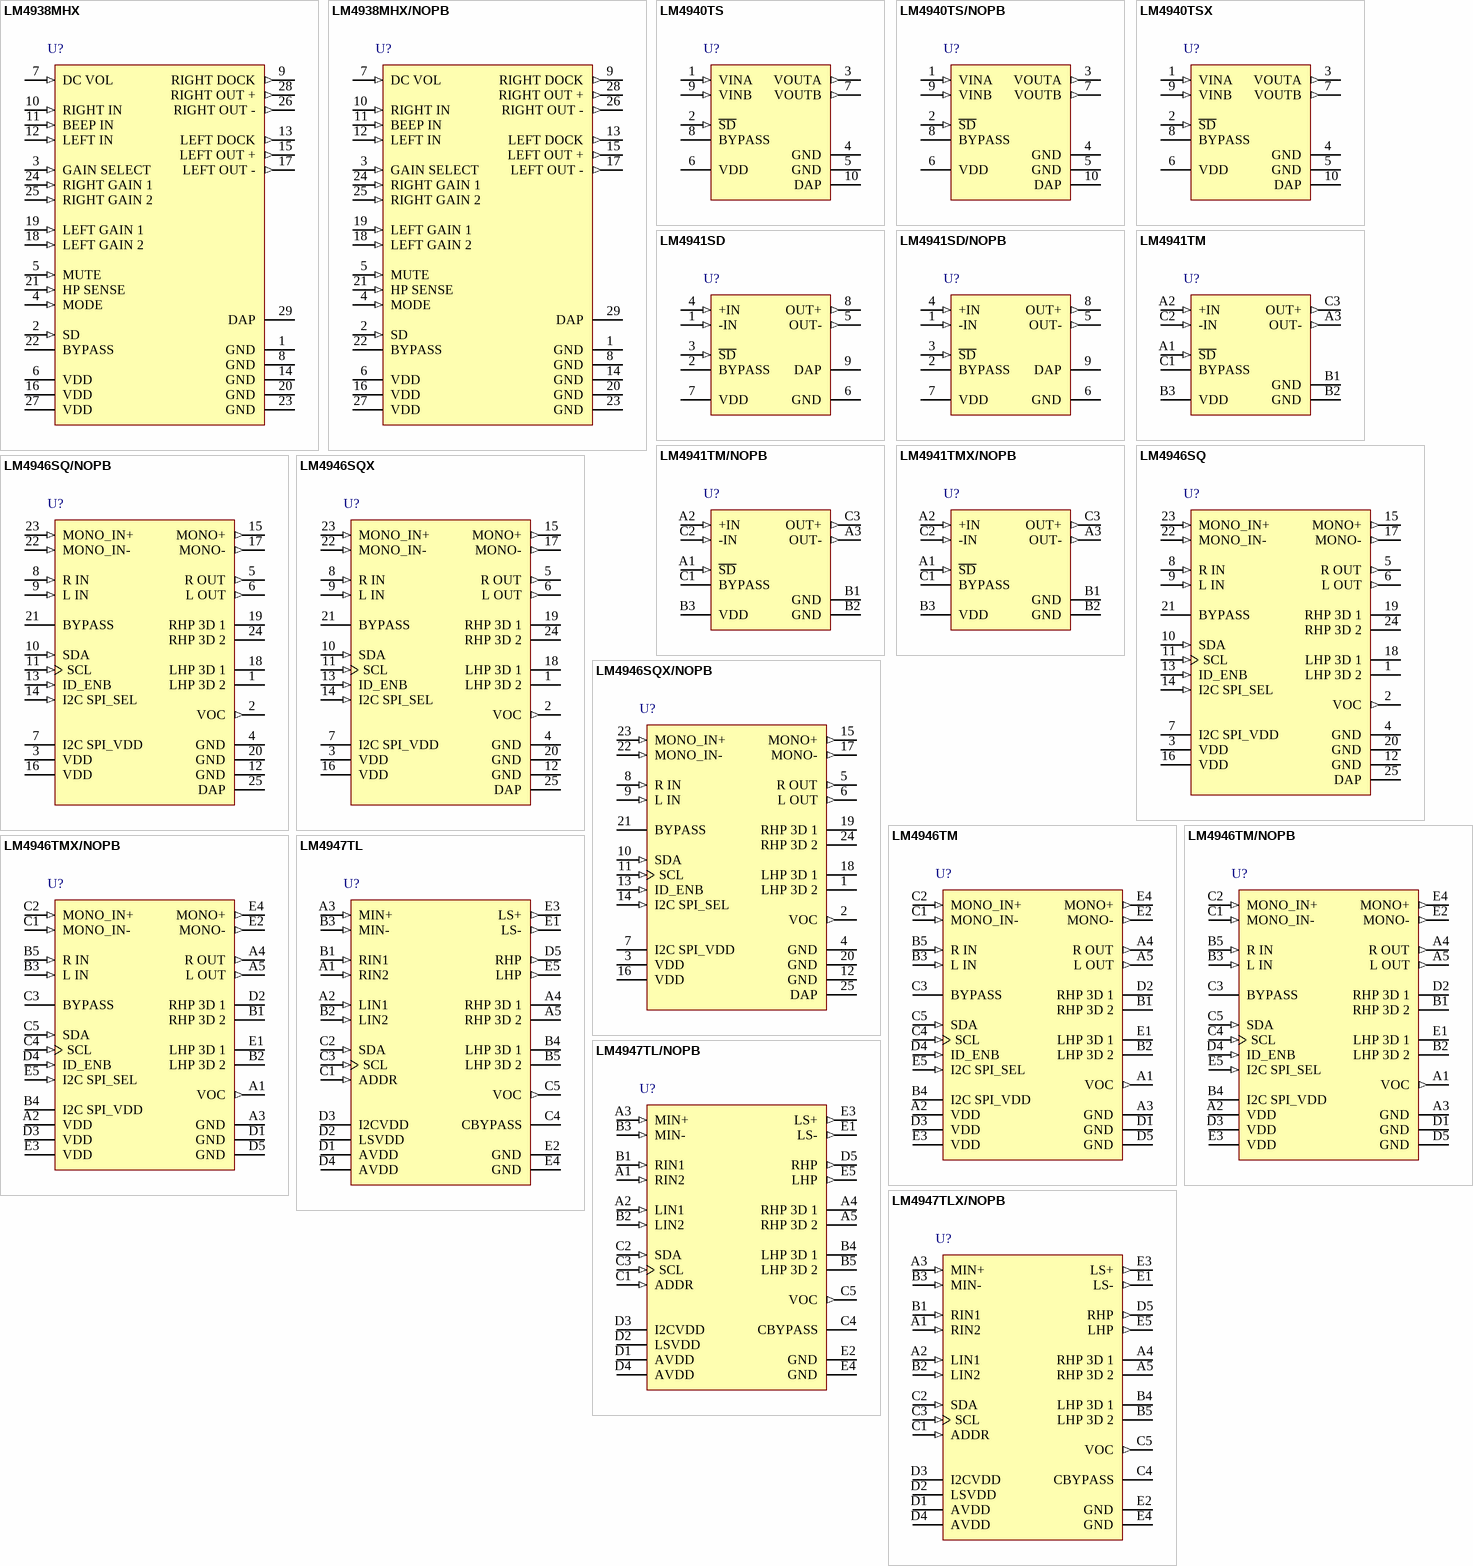
[diagram p15: symbols LM4938MHX to LM4947TLX/NOPB]